# Altium schematic symbol library SCH - MCU - NUVOTON - NUVOTON M0515LDE.SchLib: 1 symbol
Pins are listed as number, name and electrical type; pins without a type are passive.

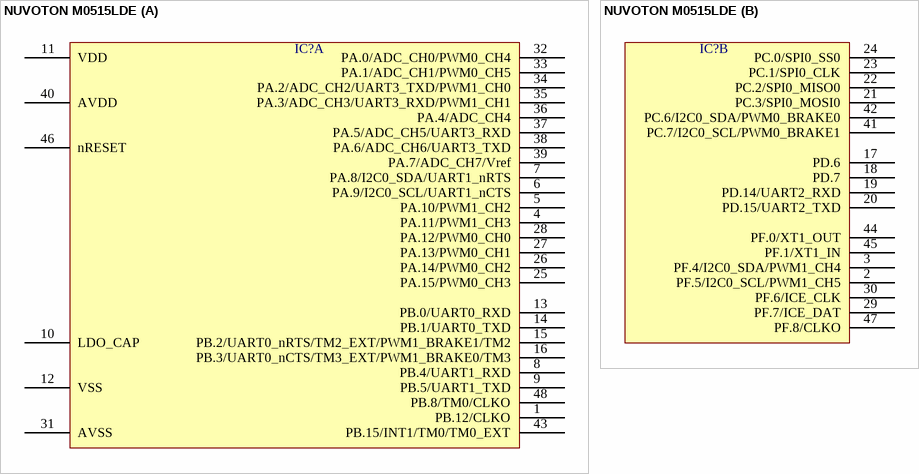
[diagram p0: symbol NUVOTON M0515LDE]

## NUVOTON M0515LDE
designator IC?  (value not drawn)
part A pins: 1 PB.12/CLKO, 4 PA.11/PWM1_CH3, 5 PA.10/PWM1_CH2, 6 PA.9/I2C0_SCL/UART1_nCTS, 7 PA.8/I2C0_SDA/UART1_nRTS, 8 PB.4/UART1_RXD, 9 PB.5/UART1_TXD, 10 LDO_CAP, 11 VDD, 12 VSS, 13 PB.0/UART0_RXD, 14 PB.1/UART0_TXD, 15 PB.2/UART0_nRTS/TM2_EXT/PWM1_BRAKE1/TM2, 16 PB.3/UART0_nCTS/TM3_EXT/PWM1_BRAKE0/TM3, 25 PA.15/PWM0_CH3, 26 PA.14/PWM0_CH2, 27 PA.13/PWM0_CH1, 28 PA.12/PWM0_CH0, 31 AVSS, 32 PA.0/ADC_CH0/PWM0_CH4, 33 PA.1/ADC_CH1/PWM0_CH5, 34 PA.2/ADC_CH2/UART3_TXD/PWM1_CH0, 35 PA.3/ADC_CH3/UART3_RXD/PWM1_CH1, 36 PA.4/ADC_CH4, 37 PA.5/ADC_CH5/UART3_RXD, 38 PA.6/ADC_CH6/UART3_TXD, 39 PA.7/ADC_CH7/Vref, 40 AVDD, 43 PB.15/INT1/TM0/TM0_EXT, 46 nRESET, 48 PB.8/TM0/CLKO
part B pins: 2 PF.5/I2C0_SCL/PWM1_CH5, 3 PF.4/I2C0_SDA/PWM1_CH4, 17 PD.6, 18 PD.7, 19 PD.14/UART2_RXD, 20 PD.15/UART2_TXD, 21 PC.3/SPI0_MOSI0, 22 PC.2/SPI0_MISO0, 23 PC.1/SPI0_CLK, 24 PC.0/SPI0_SS0, 29 PF.7/ICE_DAT, 30 PF.6/ICE_CLK, 41 PC.7/I2C0_SCL/PWM0_BRAKE1, 42 PC.6/I2C0_SDA/PWM0_BRAKE0, 44 PF.0/XT1_OUT, 45 PF.1/XT1_IN, 47 PF.8/CLKO